# EAGLE library part USB2.0-ID (library Public)
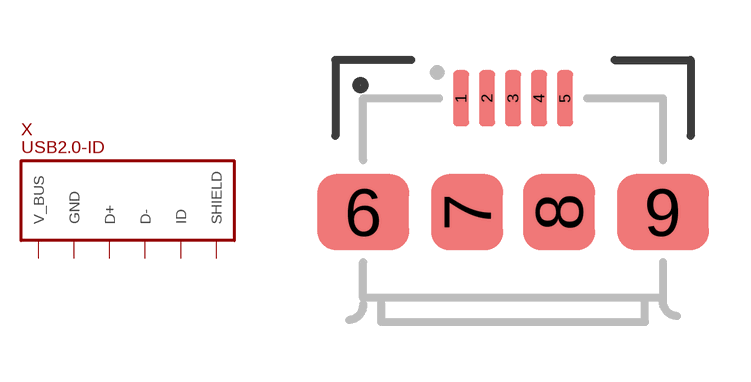
[diagram p150: symbol with the pads of USB-AB_AMPHENOL_10104111; footprint USB-AB_AMPHENOL_10104111]

Designator prefix X

## USB2.0-ID(10104111)  [USB-AB_AMPHENOL_10104111]
1  V_BUS
2  D-
3  D+
4  ID
5  GND
6  SHIELD
7  SHIELD
8  SHIELD
9  SHIELD

## Footprint USB-AB_AMPHENOL_10104111 (pad centres in mm)
smd 0.4 x 1.4: 1 -1.3,2.85; 2 -0.65,2.85; 3 0,2.85; 4 0.65,2.85; 5 1.3,2.85
smd 2.3 x 1.9: 6 -3.75,0; 9 3.75,0
smd 1.8 x 1.9: 7 -1.15,0; 8 1.15,0